# Altium integrated library Free Documents.IntLib: 1 symbol
Pins are listed as number, name and electrical type; pins without a type are passive.

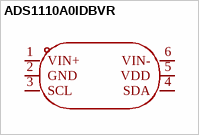
[diagram p0: symbol ADS1110A0IDBVR]

## ADS1110A0IDBVR
designator U??  (value not drawn)
Manufacturer: TI(德州仪器); Add into BOM: yes; Resolution(Bits): 16位; Sampling Rate: 15Hz; number of channels: 1; Voltage - Supply: 2.7V~5.5V; Interface: I2C; Symbol: ADS1110A0IDBVR; Device: ADS1110A0IDBVR; LCSC Part Name: 16位模拟到数字转换器 带板载参考源; Supplier Part: C16598; Manufacturer Part: ADS1110A0IDBVR; Supplier Footprint: SOT-23-6; JLCPCB Part Class: Extended Part; Datasheet: http://www.ti.com/cn/lit/gpn/ads1110; Supplier: LCSC; Convert to PCB: yes; differential input: -; Integral non - linearity: -; Operating Temperature: -
footprint SOT-23-6_L2.9-W1.6-P0.95-LS2.8-BR
3D model SOT-23-6_L2.9-W1.6-H1.5-LS2.8-P0.95
pins: 1 VIN+, 2 GND, 3 SCL, 4 SDA, 5 VDD, 6 VIN-